# Altium integrated library ALTIUM-WL-SIRW-rev18a.IntLib: 2 symbols
Pins are listed as number, name and electrical type; pins without a type are passive.

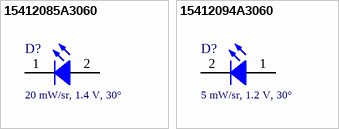
[diagram p0: symbols 15412085A3060 to 15412094A3060]

## 15412085A3060
designator D?, comment 20 mW/sr, 1.4 V, 30°
WL-SIRW SMD Infrared Reverse mount Waterclear Dome, size 1206, 20 mW/sr, 1.4 V, 30°; Part Number: 15412085A3060; Forward Voltage: 1.4 V; Peak Wavelength: 850 nm; Centroid Wavelength: 845 nm; ComponentLink1Description: Manufacturer; ComponentLink1URL: http://www.we-online.de; ComponentLink2Description: Datasheet; ComponentLink2URL: http://katalog.we-online.de/led/datasheet/15412085A3060.pdf; Published Date: May 2018; Publisher: Wurth Elektronik; Size: 1206; Viewing Angle: 30°; Operating Temperature: -40 to 85 degC; Emitting Color: Infrared; Radiant Intensity: 20 mW/sr; Mounting Technology: SMT
footprint WL-SIRW_1206_15412085A3060_normal use
footprint WL-SIRW_1206_15412085A3060_reverse use
pins: 1 K, 2 A

## 15412094A3060
designator D?, comment 5 mW/sr, 1.2 V, 30°
WL-SIRW SMD Infrared Reverse mount Waterclear Dome, size 1206, 5 mW/sr, 1.2 V, 30°; Part Number: 15412094A3060; Forward Voltage: 1.2 V; Peak Wavelength: 940 nm; Radiant Intensity: 5 mW/sr; ComponentLink1Description: Manufacturer; ComponentLink1URL: http://www.we-online.de; ComponentLink2Description: Datasheet; ComponentLink2URL: http://katalog.we-online.de/led/datasheet/15412094A3060.pdf; Published Date: May 2018; Publisher: Wurth Elektronik; Size: 1206; Viewing Angle: 30°; Operating Temperature: -40 to 85 degC; Centroid Wavelength: 940 nm; Emitting Color: Infrared; Mounting Technology: SMT
footprint WL-SIRW_1206_15412094A3060_normal use
footprint WL-SIRW_1206_15412094A3060_reverse use
pins: 1 A, 2 K